# Altium schematic symbol library BLM18KG121TZ1D.SchLib: 1 symbol
Pins are listed as number, name and electrical type; pins without a type are passive.

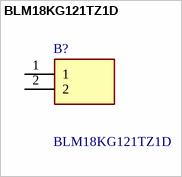
[diagram p0: symbol BLM18KG121TZ1D]

## BLM18KG121TZ1D
designator B?
BLM18_Z1D Series EMI Suppression Filter 120+/-25% at 100MHz 3A @85; Manufacturer_Name: Murata Electronics; Geometry.Height: 0.75mm; Manufacturer_Part_Number: BLM18KG121TZ1D; Mouser Part Number: 81-BLM18KG121TZ1D; Mouser Price/Stock: https://www.mouser.co.uk/ProductDetail/Murata-Electronics/BLM18KG121TZ1D?qs=lEfY3O89Aqmt%252B40wz%2FCO1A%3D%3D; Arrow Part Number: BLM18KG121TZ1D; Arrow Price/Stock: https://www.arrow.com/en/products/blm18kg121tz1d/murata-manufacturing?region=nac; Datasheet Link: http://www.murata.com/~/media/webrenewal/support/library/catalog/products/emc/emifil/c31e.ashx?la=en-gb
footprint BLM18EG101TH1D
pins: 1, 2